# Altium footprint library Crystal.PcbLib: 180 footprints (part 6 of 12)
Each footprint in its own frame and in the unit in brackets; x right, y up, seen from the top. Pads: shape width x height; smd on the part's side, far side on the other; paste and mask are expansions set on the pad; w line width, h text height; cw(c..) or ccw(c..) is an arc to the next point about the centre after c.
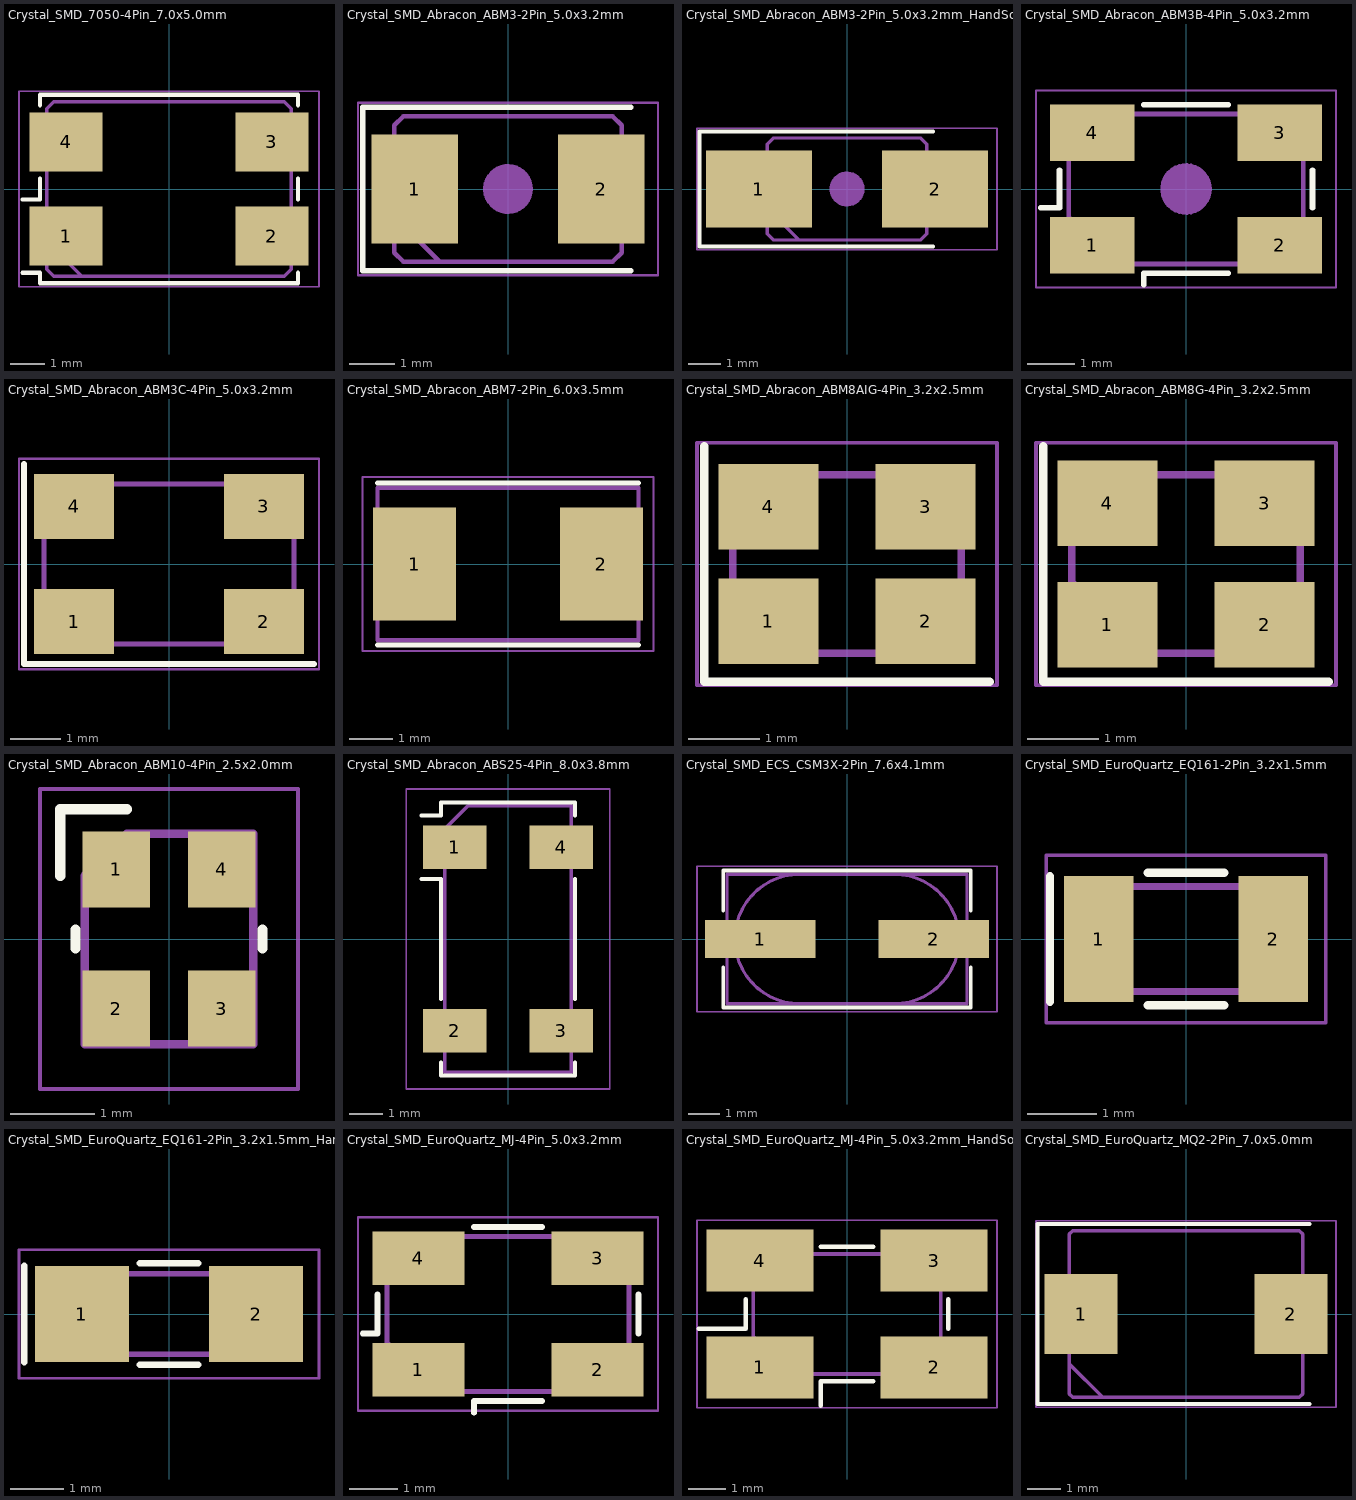
[diagram p5: the footprints below, top view; thin cyan lines are the x and y axes]

## Crystal_SMD_7050-4Pin_7.0x5.0mm [mm]
pads (4):
  rect 2.1x1.7 smd: 1(-2.95,-1.35) 2(2.95,-1.35) 3(2.95,1.35) 4(-2.95,1.35)
F.SilkS:
  lines w0.12: -4.2,-2.4 -3.7,-2.4 -3.7,-2.7 3.7,-2.7 3.7,-2.4 ; -4.2,-0.3 -3.7,-0.3 -3.7,0.3 ; -3.7,2.4 -3.7,2.7 3.7,2.7 3.7,2.4 ; 3.7,-0.3 3.7,0.3
F.CrtYd:
  lines w0.05: -4.3,-2.8 4.3,-2.8 4.3,2.8 -4.3,2.8 -4.3,-2.8
F.Fab:
  lines w0.1: -3.5,-1.5 -2.5,-2.5 ; -3.5,-2.3 -3.3,-2.5 3.3,-2.5 3.5,-2.3 3.5,2.3 3.3,2.5 -3.3,2.5 -3.5,2.3 -3.5,-2.3
  text "'.Designator'" at -4.047,-0.84 h1

## Crystal_SMD_Abracon_ABM3-2Pin_5.0x3.2mm [mm]
pads (2):
  rect 1.9x2.4 smd: 1(-2.05,0) 2(2.05,0)
F.SilkS:
  lines w0.12: 2.7,-1.8 -3.2,-1.8 -3.2,1.8 2.7,1.8
F.CrtYd:
  lines w0.05: -3.3,-1.9 3.3,-1.9 3.3,1.9 -3.3,1.9 -3.3,-1.9
F.Fab:
  lines w0.1: -2.5,-0.6 -1.5,-1.6 ; -2.5,-1.4 -2.3,-1.6 2.3,-1.6 2.5,-1.4 2.5,1.4 2.3,1.6 -2.3,1.6 -2.5,1.4 -2.5,-1.4
  text "'.Designator'" at -4.047,-0.84 h1
F.Adhes:
  circle w0.167: c0,0 r0.267
  circle w0.167: c0,0 r0.417
  circle w0.233: c0,0 r0.117
  circle w0.1: c0,0 r0.5

## Crystal_SMD_Abracon_ABM3-2Pin_5.0x3.2mm_HandSoldering [mm]
pads (2):
  rect 3.325x2.4 smd: 1(-2.762,0) 2(2.762,0)
F.SilkS:
  lines w0.12: 2.7,-1.8 -4.625,-1.8 -4.625,1.8 2.7,1.8
F.CrtYd:
  lines w0.05: -4.7,-1.9 -4.7,1.9 4.7,1.9 4.7,-1.9 -4.7,-1.9
F.Fab:
  lines w0.1: -2.5,-0.6 -1.5,-1.6 ; -2.5,-1.4 -2.5,1.4 -2.3,1.6 2.3,1.6 2.5,1.4 2.5,-1.4 2.3,-1.6 -2.3,-1.6 -2.5,-1.4
  text "'.Designator'" at -4.047,-0.84 h1
F.Adhes:
  circle w0.233: c0,0 r0.117
  circle w0.1: c0,0 r0.5
  circle w0.167: c0,0 r0.267
  circle w0.167: c0,0 r0.417

## Crystal_SMD_Abracon_ABM3B-4Pin_5.0x3.2mm [mm]
pads (4):
  rect 1.8x1.2 smd: 1(-2,-1.2) 2(2,-1.2) 3(2,1.2) 4(-2,1.2)
F.SilkS:
  lines w0.12: -3.1,-0.4 -2.7,-0.4 -2.7,0.4 ; -0.9,-2.04 -0.9,-1.8 0.9,-1.8 ; -0.9,1.8 0.9,1.8 ; 2.7,-0.4 2.7,0.4
F.CrtYd:
  lines w0.05: -3.2,-2.1 3.2,-2.1 3.2,2.1 -3.2,2.1 -3.2,-2.1
F.Fab:
  lines w0.1: -2.5,-0.6 -1.5,-1.6 ; -2.5,-1.4 -2.3,-1.6 2.3,-1.6 2.5,-1.4 2.5,1.4 2.3,1.6 -2.3,1.6 -2.5,1.4 -2.5,-1.4
  text "'.Designator'" at -4.047,-0.84 h1
F.Adhes:
  circle w0.233: c0,0 r0.117
  circle w0.167: c0,0 r0.267
  circle w0.167: c0,0 r0.417
  circle w0.1: c0,0 r0.5

## Crystal_SMD_Abracon_ABM3C-4Pin_5.0x3.2mm [mm]
pads (4):
  rect 1.6x1.3 smd: 1(-1.9,-1.15) 2(1.9,-1.15) 3(1.9,1.15) 4(-1.9,1.15)
F.SilkS:
  lines w0.12: -2.9,2 -2.9,-2 2.9,-2
F.CrtYd:
  lines w0.05: -3,-2.1 3,-2.1 3,2.1 -3,2.1 -3,-2.1
F.Fab:
  lines w0.1: -2.5,-0.6 -1.5,-1.6 ; -2.5,-1.4 -2.5,1.4 -2.3,1.6 2.3,1.6 2.5,1.4 2.5,-1.4 2.3,-1.6 -2.3,-1.6 -2.5,-1.4
  text "'.Designator'" at -4.047,-0.84 h1

## Crystal_SMD_Abracon_ABM7-2Pin_6.0x3.5mm [mm]
pads (2):
  rect 1.9x2.6 smd: 1(-2.15,0) 2(2.15,0)
F.SilkS:
  lines w0.12: -3,-1.86 3,-1.86 ; -3,1.86 3,1.86
F.CrtYd:
  lines w0.05: -3.35,-2 -3.35,2 3.35,2 3.35,-2 -3.35,-2
F.Fab:
  lines w0.1: -3,-1.75 -3,1.75 3,1.75 3,-1.75 -3,-1.75
  text "'.Designator'" at -4.047,1.76 h1

## Crystal_SMD_Abracon_ABM8AIG-4Pin_3.2x2.5mm [mm]
pads (4):
  rect 1.4x1.2 smd: 1(-1.1,-0.8) 2(1.1,-0.8) 3(1.1,0.8) 4(-1.1,0.8)
F.SilkS:
  lines w0.12: -2,1.65 -2,-1.65 2,-1.65
F.CrtYd:
  lines w0.05: -2.1,-1.7 -2.1,1.7 2.1,1.7 2.1,-1.7 -2.1,-1.7
F.Fab:
  lines w0.1: -1.6,-0.25 -0.6,-1.25 ; -1.6,-1.05 -1.6,1.05 -1.4,1.25 1.4,1.25 1.6,1.05 1.6,-1.05 1.4,-1.25 -1.4,-1.25 -1.6,-1.05
  text "'.Designator'" at -2.833,-0.588 h0.7

## Crystal_SMD_Abracon_ABM8G-4Pin_3.2x2.5mm [mm]
pads (4):
  rect 1.4x1.2 smd: 1(-1.1,-0.85) 2(1.1,-0.85) 3(1.1,0.85) 4(-1.1,0.85)
F.SilkS:
  lines w0.12: -2,1.65 -2,-1.65 2,-1.65
F.CrtYd:
  lines w0.05: -2.1,-1.7 -2.1,1.7 2.1,1.7 2.1,-1.7 -2.1,-1.7
F.Fab:
  lines w0.1: -1.6,-0.25 -0.6,-1.25 ; -1.6,-1.05 -1.4,-1.25 1.4,-1.25 1.6,-1.05 1.6,1.05 1.4,1.25 -1.4,1.25 -1.6,1.05 -1.6,-1.05
  text "'.Designator'" at -2.833,-0.588 h0.7
3D body "Crystal_SMD_Abracon_ABM8G-4Pin_3.2x2.5mm.step": height 0.64, standoff 0, extent -1.599,-1.251 1.601,1.25

## Crystal_SMD_Abracon_ABM10-4Pin_2.5x2.0mm [mm]
pads (4):
  rect 0.8x0.9 smd: 1(-0.625,0.825) 2(-0.625,-0.825) 3(0.625,-0.825) 4(0.625,0.825)
F.SilkS:
  lines w0.12: -1.29,0.75 -1.29,1.54 -0.5,1.54 ; -1.11,-0.11 -1.11,0.11 ; 1.11,-0.11 1.11,0.11
F.CrtYd:
  lines w0.05: -1.53,-1.78 -1.53,1.78 1.53,1.78 1.53,-1.78 -1.53,-1.78
F.Fab:
  lines w0.1: -1,-1.25 -1,0.75 -0.5,1.25 1,1.25 1,-1.25 -1,-1.25
  text "'.Designator'" at 0.42,-2.023 h0.5

## Crystal_SMD_Abracon_ABS25-4Pin_8.0x3.8mm [mm]
pads (4):
  rect 1.9x1.3 smd: 1(-1.6,2.75) 2(-1.6,-2.75) 3(1.6,-2.75) 4(1.6,2.75)
F.SilkS:
  lines w0.12: -2.6,1.8 -2.01,1.8 -2.01,-1.8 ; -2.6,3.7 -2.01,3.7 -2.01,4.1 2.01,4.1 2.01,3.7 ; -2.01,-3.7 -2.01,-4.1 2.01,-4.1 2.01,-3.7 ; 2.01,-1.8 2.01,1.8
F.CrtYd:
  lines w0.05: -3.05,-4.5 3.05,-4.5 3.05,4.5 -3.05,4.5 -3.05,-4.5
F.Fab:
  lines w0.1: -1.9,-4 -1.9,3.3 -1.2,4 1.9,4 1.9,-4 -1.9,-4
  text "'.Designator'" at -4.047,-0.84 h1

## Crystal_SMD_ECS_CSM3X-2Pin_7.6x4.1mm [mm]
pads (2):
  rect 3.5x1.2 smd: 1(-2.75,0) 2(2.75,0)
F.SilkS:
  lines w0.12: -3.92,-0.9 -3.92,-2.17 3.92,-2.17 3.92,-0.9 ; -3.92,0.9 -3.92,2.17 3.92,2.17 3.92,0.9
F.CrtYd:
  lines w0.05: -4.75,-2.3 -4.75,2.3 4.75,2.3 4.75,-2.3 -4.75,-2.3
F.Fab:
  lines w0.1: -1.5,-2.05 cw(c-1.5,0) -1.5,2.05 ; 1.5,-2.05 ccw(c1.5,0) 1.5,2.05 ; -3.8,-2.05 -3.8,2.05 3.8,2.05 3.8,-2.05 -3.8,-2.05
  text "'.Designator'" at -4.047,-0.79 h1

## Crystal_SMD_EuroQuartz_EQ161-2Pin_3.2x1.5mm [mm]
pads (2):
  rect 1x1.8 smd: 1(-1.25,0) 2(1.25,0)
F.SilkS:
  lines w0.12: -1.95,-0.9 -1.95,0.9 ; -0.55,-0.95 0.55,-0.95 ; -0.55,0.95 0.55,0.95
F.CrtYd:
  lines w0.05: -2,-1.2 -2,1.2 2,1.2 2,-1.2 -2,-1.2
F.Fab:
  lines w0.1: -1.6,-0.25 -1.1,-0.75 ; -1.6,-0.65 -1.5,-0.75 1.5,-0.75 1.6,-0.65 1.6,0.65 1.5,0.75 -1.5,0.75 -1.6,0.65 -1.6,-0.65
  text "'.Designator'" at -2.833,-0.588 h0.7

## Crystal_SMD_EuroQuartz_EQ161-2Pin_3.2x1.5mm_HandSoldering [mm]
pads (2):
  rect 1.75x1.8 smd: 1(-1.625,0) 2(1.625,0)
F.SilkS:
  lines w0.12: -2.7,-0.9 -2.7,0.9 ; -0.55,-0.95 0.55,-0.95 ; -0.55,0.95 0.55,0.95
F.CrtYd:
  lines w0.05: -2.8,-1.2 2.8,-1.2 2.8,1.2 -2.8,1.2 -2.8,-1.2
F.Fab:
  lines w0.1: -1.6,-0.25 -1.1,-0.75 ; -1.6,-0.65 -1.6,0.65 -1.5,0.75 1.5,0.75 1.6,0.65 1.6,-0.65 1.5,-0.75 -1.5,-0.75 -1.6,-0.65
  text "'.Designator'" at -2.833,-0.588 h0.7

## Crystal_SMD_EuroQuartz_MJ-4Pin_5.0x3.2mm [mm]
pads (4):
  rect 1.9x1.1 smd: 1(-1.85,-1.15) 2(1.85,-1.15) 3(1.85,1.15) 4(-1.85,1.15)
F.SilkS:
  lines w0.12: -3,-0.4 -2.7,-0.4 -2.7,0.4 ; -0.7,-2.04 -0.7,-1.8 0.7,-1.8 ; -0.7,1.8 0.7,1.8 ; 2.7,-0.4 2.7,0.4
F.CrtYd:
  lines w0.05: -3.1,-2 3.1,-2 3.1,2 -3.1,2 -3.1,-2
F.Fab:
  lines w0.1: -2.5,-0.6 -1.5,-1.6 ; -2.5,-1.5 -2.5,1.5 -2.4,1.6 2.4,1.6 2.5,1.5 2.5,-1.5 2.4,-1.6 -2.4,-1.6 -2.5,-1.5
  text "'.Designator'" at -4.047,-0.84 h1

## Crystal_SMD_EuroQuartz_MJ-4Pin_5.0x3.2mm_HandSoldering [mm]
pads (4):
  rect 2.85x1.65 smd: 1(-2.325,-1.425) 2(2.325,-1.425) 3(2.325,1.425) 4(-2.325,1.425)
F.SilkS:
  lines w0.12: -3.95,-0.4 -2.7,-0.4 -2.7,0.4 ; -0.7,-2.45 -0.7,-1.8 0.7,-1.8 ; -0.7,1.8 0.7,1.8 ; 2.7,-0.4 2.7,0.4
F.CrtYd:
  lines w0.05: -4,-2.5 -4,2.5 4,2.5 4,-2.5 -4,-2.5
F.Fab:
  lines w0.1: -2.5,-0.6 -1.5,-1.6 ; -2.5,-1.5 -2.4,-1.6 2.4,-1.6 2.5,-1.5 2.5,1.5 2.4,1.6 -2.4,1.6 -2.5,1.5 -2.5,-1.5
  text "'.Designator'" at -4.047,-0.84 h1

## Crystal_SMD_EuroQuartz_MQ2-2Pin_7.0x5.0mm [mm]
pads (2):
  rect 2.2x2.4 smd: 1(-3.15,0) 2(3.15,0)
F.SilkS:
  lines w0.12: 3.7,-2.7 -4.45,-2.7 -4.45,2.7 3.7,2.7
F.CrtYd:
  lines w0.05: -4.5,-2.8 -4.5,2.8 4.5,2.8 4.5,-2.8 -4.5,-2.8
F.Fab:
  lines w0.1: -3.5,-1.5 -2.5,-2.5 ; -3.5,-2.4 -3.5,2.4 -3.4,2.5 3.4,2.5 3.5,2.4 3.5,-2.4 3.4,-2.5 -3.4,-2.5 -3.5,-2.4
  text "'.Designator'" at -4.047,-0.84 h1